# Altium footprint library SamacSys2.PcbLib: 11 footprints
Each footprint in its own frame and in the unit in brackets; x right, y up, seen from the top. Pads: shape width x height; smd on the part's side, far side on the other; paste and mask are expansions set on the pad; w line width, h text height; cw(c..) or ccw(c..) is an arc to the next point about the centre after c.
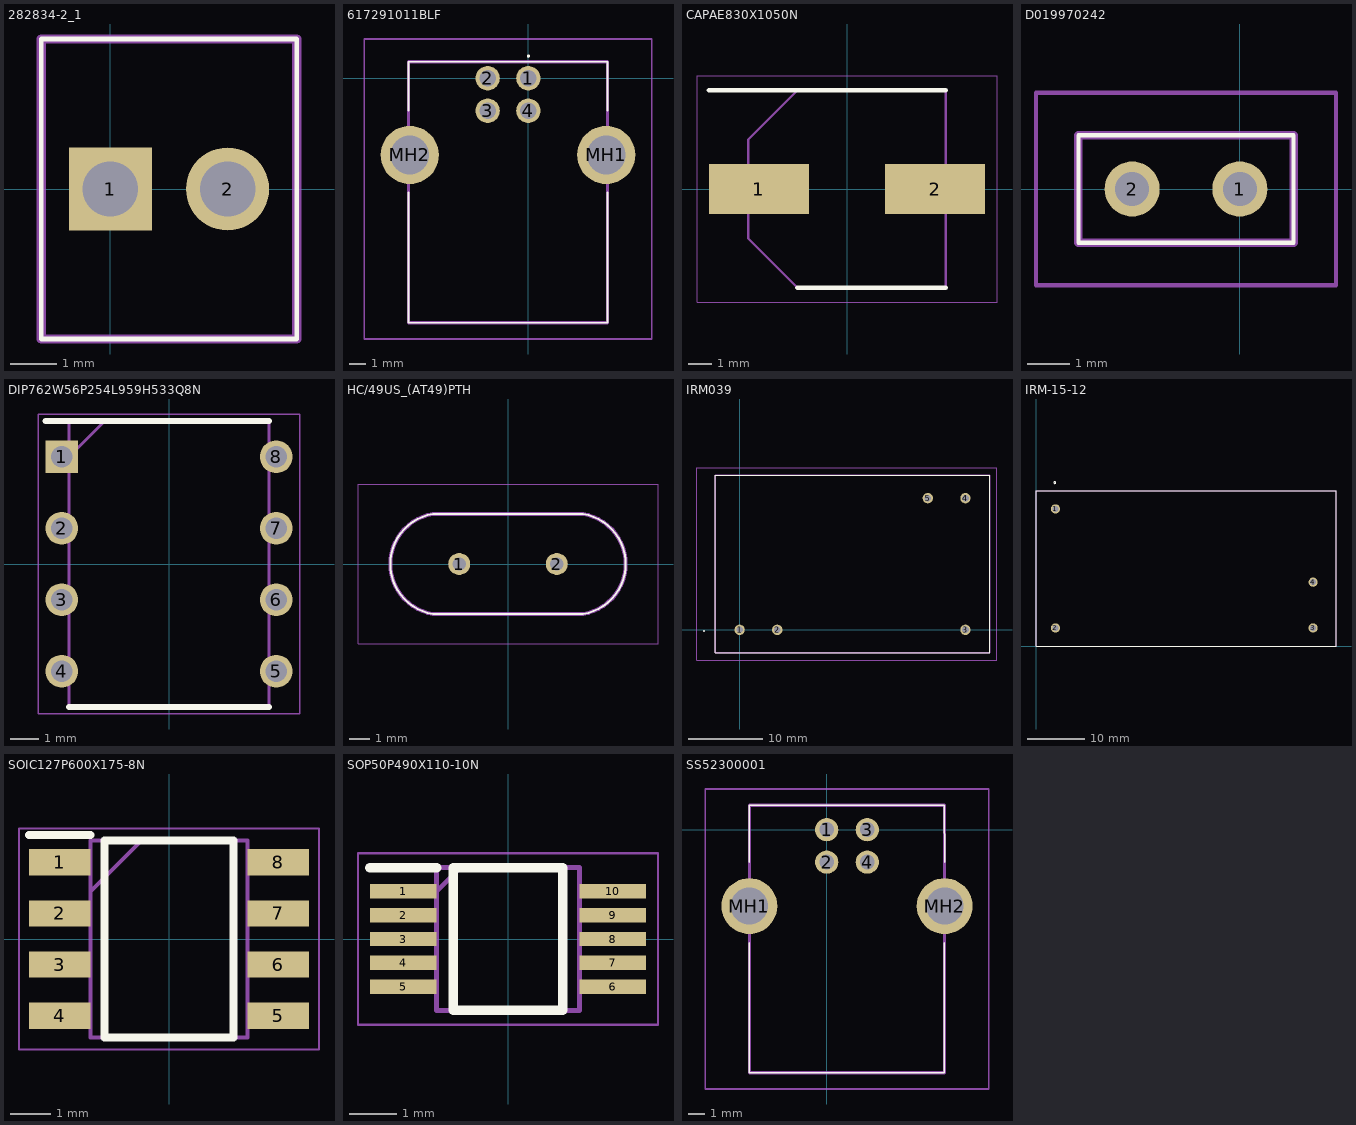
[diagram p0: the footprints below, top view; thin cyan lines are the x and y axes]

## 282834-2_1 [mm]
pads (2):
  rect 1.8x1.8 hole 1.2: 1(0,0)
  round 1.8 hole 1.2: 2(2.54,0)
Top Overlay:
  lines w0.1: -1.5,-3.25 -1.5,3.25 4.04,3.25 4.04,-3.25 -1.5,-3.25
Mechanical 13:
  lines w0.2: -1.5,-3.25 -1.5,3.25 4.04,3.25 4.04,-3.25 -1.5,-3.25
3D body "282834-2.stp": height 10, standoff -3.4, extent -1.5,-3.25 4.04,3.25

## 617291011BLF [mm]
pads (6):
  round 1.5 hole 1: 1(0,0) 2(-2.5,0) 3(-2.5,-2) 4(0,-2)
  round 3.57 hole 2.38: MH1(4.77,-4.71) MH2(-7.27,-4.71)
Top Overlay:
  lines w0.1: -7.35,-6.99 -7.35,-14.99 4.85,-14.99 4.85,-6.99 ; -7.35,-2 -7.35,1.01 4.85,1.01 4.85,-2 ; 0,1.3 cw(c0,1.35) 0,1.4 cw(c0,1.35) 0,1.3
Mechanical 13:
  lines w0.2: -7.35,-14.99 4.85,-14.99 4.85,1.01 -7.35,1.01 -7.35,-14.99
Mechanical 15:
  lines w0.1: -10.055,-15.99 7.555,-15.99 7.555,2.4 -10.055,2.4 -10.055,-15.99
3D body "61729-1011BLF.stp": height 11.6, standoff -5, extent -8.351,-14.99 5.86,1.01

## CAPAE830X1050N [mm]
pads (2):
  rect 4.2x2.1 smd: 1(-3.7,0) 2(3.7,0)
Top Overlay:
  lines w0.2: -5.8,4.15 4.15,4.15 ; -2.075,-4.15 4.15,-4.15
Mechanical 13:
  lines w0.1: -4.15,-2.075 -2.075,-4.15 4.15,-4.15 4.15,4.15 -2.075,4.15 -4.15,2.075 -4.15,-2.075
Mechanical 15:
  lines w0.05: -6.3,-4.75 -6.3,4.75 6.3,4.75 6.3,-4.75 -6.3,-4.75
3D body "EEE-TC1V470V.stp": height 10.5, standoff 0, extent -5,-4.25 5,4.25

## D019970242 [mm]
pads (2):
  round 1.3 hole 0.8: 1(0,0) 2(-2.54,0)
Top Overlay:
  lines w0.1: -3.81,-1.27 -3.81,1.27 1.27,1.27 1.27,-1.27 -3.81,-1.27
Mechanical 13:
  lines w0.2: -3.81,-1.27 -3.81,1.27 1.27,1.27 1.27,-1.27 -3.81,-1.27
Mechanical 15:
  lines w0.1: -4.81,-2.27 -4.81,2.27 2.27,2.27 2.27,-2.27 -4.81,-2.27
3D body "D01-9970242.stp": height 4.35, standoff -5, extent -3.81,-1.27 1.27,1.27

## DIP762W56P254L959H533Q8N [mm]
pads (8):
  rect 1.16x1.16 hole 0.76: 1(-3.81,3.81)
  round 1.16 hole 0.76: 2(-3.81,1.27) 3(-3.81,-1.27) 4(-3.81,-3.81) 5(3.81,-3.81) 6(3.81,-1.27) 7(3.81,1.27) 8(3.81,3.81)
Top Overlay:
  lines w0.2: -4.39,5.08 3.555,5.08 ; -3.555,-5.08 3.555,-5.08
Mechanical 13:
  lines w0.1: -3.555,3.81 -2.285,5.08 ; -3.555,-5.08 -3.555,5.08 3.555,5.08 3.555,-5.08 -3.555,-5.08
Mechanical 15:
  lines w0.05: -4.64,-5.33 -4.64,5.33 4.64,5.33 4.64,-5.33 -4.64,-5.33
3D body "NE555N.stp": height 5.33, standoff -3.5, extent -3.95,-4.795 3.95,4.795

## HC/49US_(AT49)PTH [mm]
pads (2):
  round 1.1 hole 0.66: 1(-2.44,0) 2(2.44,0)
Top Overlay:
  lines w0.1: -3.752,2.5 ccw(c-3.351,0) -3.747,-2.5 ; -3.75,-2.5 3.75,-2.5 ccw(c3.35,0) 3.75,2.5 -3.75,2.5
Mechanical 13:
  lines w0.2: -3.752,-2.5 cw(c-3.351,0) -3.747,2.5 ; -3.75,-2.5 3.75,-2.5 ccw(c3.35,0) 3.75,2.5 -3.75,2.5
Mechanical 15:
  lines w0.05: -7.5,-4 -7.5,4 7.5,4 7.5,-4 -7.5,-4

## IRM039 [mm]
pads (5):
  round 1.4 hole 0.9: 1(0,0) 2(5.08,0) 3(30.48,0) 4(30.48,17.78) 5(25.4,17.78)
Top Overlay:
  lines w0.1: -3.26,-3.11 -3.26,20.89 33.74,20.89 33.74,-3.11 -3.26,-3.11
  lines w0.2: -4.8,-0.2 ccw(c-4.8,-0.15) -4.8,-0.1 ; -4.8,-0.2 cw(c-4.8,-0.15) -4.8,-0.1 ; -4.8,-0.2 ccw(c-4.8,-0.15) -4.8,-0.1
Mechanical 13:
  lines w0.2: -3.26,-3.11 -3.26,20.89 33.74,20.89 33.74,-3.11 -3.26,-3.11
Mechanical 15:
  lines w0.1: -5.75,-4.11 -5.75,21.89 34.74,21.89 34.74,-4.11 -5.75,-4.11
3D body "IRM-03-9.stp": height 15.1, standoff -5, extent -3.26,-3.11 33.74,20.89

## IRM-15-12 [mm]
pads (4):
  round 1.6 hole 1.04: 1(3.4,24) 2(3.4,3.2) 3(48.4,3.2) 4(48.4,11.2)
Top Overlay:
  circle w0.2: c3.28,28.59 r0.161
  lines w0.2: 0,0 52.4,0 52.4,27.2 0,27.2 0,0
Mechanical 13:
  lines w0.2: 0,0 0,27.2 52.4,27.2 52.4,0 0,0

## SOIC127P600X175-8N [mm]
pads (8):
  rect 1.525x0.65 smd: 1(-2.712,1.905) 2(-2.712,0.635) 3(-2.712,-0.635) 4(-2.712,-1.905) 5(2.712,-1.905) 6(2.712,-0.635) 7(2.712,0.635) 8(2.712,1.905)
Top Overlay:
  lines w0.2: -3.475,2.58 -1.95,2.58 ; -1.6,-2.45 1.6,-2.45 1.6,2.45 -1.6,2.45 -1.6,-2.45
Mechanical 13:
  lines w0.1: -1.95,1.18 -0.68,2.45 ; -1.95,-2.45 1.95,-2.45 1.95,2.45 -1.95,2.45 -1.95,-2.45
Mechanical 15:
  lines w0.05: -3.725,-2.75 3.725,-2.75 3.725,2.75 -3.725,2.75 -3.725,-2.75
3D body "NE555DR.stp": height 1.75, standoff 0, extent -3,-2.45 3,2.45

## SOP50P490X110-10N [mm]
pads (10):
  rect 1.4x0.3 smd: 1(-2.2,1) 2(-2.2,0.5) 3(-2.2,0) 4(-2.2,-0.5) 5(-2.2,-1) 6(2.2,-1) 7(2.2,-0.5) 8(2.2,0) 9(2.2,0.5) 10(2.2,1)
Top Overlay:
  lines w0.2: -2.9,1.5 -1.5,1.5 ; -1.15,-1.5 -1.15,1.5 1.15,1.5 1.15,-1.5 -1.15,-1.5
Mechanical 13:
  lines w0.1: -1.5,1 -1,1.5 ; -1.5,-1.5 -1.5,1.5 1.5,1.5 1.5,-1.5 -1.5,-1.5
Mechanical 15:
  lines w0.05: -3.15,-1.8 -3.15,1.8 3.15,1.8 3.15,-1.8 -3.15,-1.8
3D body "DAC5574IDGS.stp": height 1.1, standoff 0, extent -2.45,-1.5 2.45,1.5

## SS52300001 [mm]
pads (6):
  round 1.431 hole 0.92: 1(0,0) 2(0,-2) 3(2.5,0) 4(2.5,-2)
  round 3.45 hole 2.3: MH1(-4.77,-4.71) MH2(7.27,-4.71)
Top Overlay:
  lines w0.1: -4.77,-6.99 -4.77,-14.99 7.25,-14.99 7.25,-6.99 ; -4.77,-2 -4.77,1.51 7.25,1.51 7.27,-1.99
Mechanical 13:
  lines w0.2: -4.77,-14.99 -4.77,1.51 7.27,1.51 7.27,-14.99 -4.77,-14.99
Mechanical 15:
  lines w0.1: -7.495,-15.99 -7.495,2.51 9.995,2.51 9.995,-15.99 -7.495,-15.99
3D body "SS-52300-001.stp": height 10.92, standoff -5, extent -5.812,-14.99 8.32,1.51